# Altium integrated library Linear Technology Power Management PMIC Multifunction.IntLib: 360 symbols (part 2 of 42)
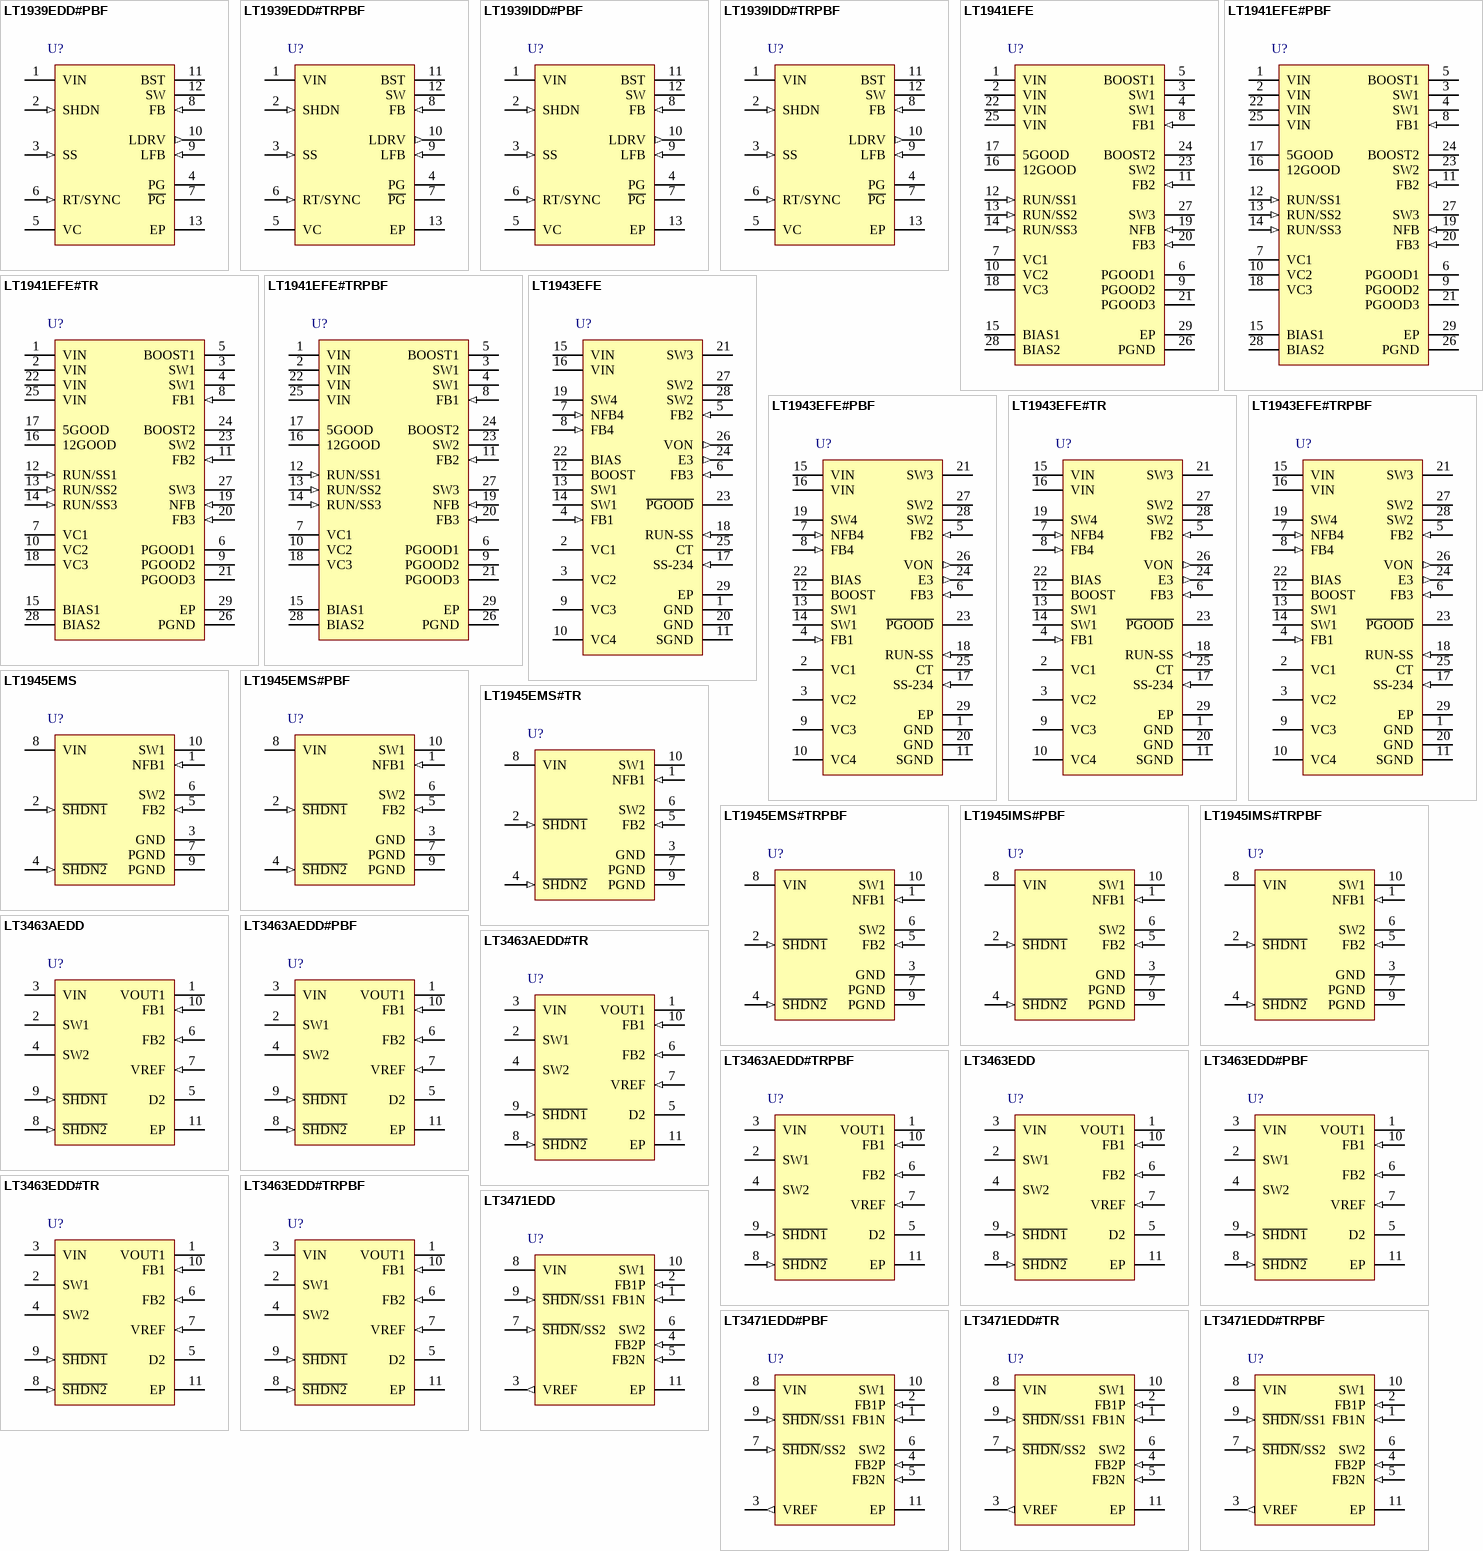
[diagram p19: symbols LT1939EDD#PBF to LT3471EDD#TRPBF]

## LT1943EFE#PBF
designator U?
High Current Quad Output Regulator for TFT LCD Display, 4.5 to 22 V Vin, 28-pin SOP (FE-28-EPV-EB), -40 to 85 degC, Pb-Free; Manufacturer: Linear Technology; PartNumber: LT1943EFE#PBF; Number of Outputs: 4; Vin Max(V): 22; Vin Min(V): 4.5; DatasheetVersion: Rev. A; PackageVersion: Rev. J, 11/2012; PackageReference: FE-28; PackageDescription: 28-Pin Plastic TSSOP, Body 9.7 x 4.4 mm, Pitch 0.65 mm; Supplier 1: Digi-Key; Supplier Part Number 1: LT1943EFE#PBF-ND; Supplier 2: Newark; Supplier Part Number 2: 57M7254; RoHS: TRUE; Mounting Technology: Surface Mount; ComponentLink1Description: Manufacturer URL; ComponentLink1URL: http://www.linear.com/; ComponentLink2Description: Datasheet; ComponentLink2URL: http://cds.linear.com/docs/en/datasheet/1943f.pdf; ComponentLink3Description: Package Specification; ComponentLink3URL: http://cds.linear.com/docs/en/packaging/05081663__J_FE28(EB).pdf
footprint LT-FE-28-EPV-EB_N (SOP, 28-Leads, Body 9.8x4.5mm, Pitch 0.65mm, Thermal Pad 4.75x2.74mm, IPC Medium Density)
footprint LT-FE-28-EPV-EB_L (SOP, 28-Leads, Body 9.8x4.5mm, Pitch 0.65mm, Thermal Pad 4.75x2.74mm, IPC High Density)
footprint LT-FE-28-EPV-EB_M (SOP, 28-Leads, Body 9.8x4.5mm, Pitch 0.65mm, Thermal Pad 4.75x2.74mm, IPC Low Density)
pins: 1 GND (power) "Ground. Tie both GND pins and the exposed pad directly to a local ground plane.", 2 VC1 "Switching Regulator 1 Error Amplifier Compensation. Connect a resistor / capacitor network in series with this pin.", 3 VC2 "Error Amplifier Compensation for Switcher 2. Connect a resistor / capacitor network in series with this pin.", 4 FB1 (in) "Switching Regulator 1 Feedback. Tie the resistor divider tap to this pin and set VLOGIC according to VLOGIC = 1.25 ?(1 + R2/R1). Reference designators refer to Figure 1.", 5 FB2 (in) "Feedback for Switch 2. Tie the resistor divider tap to this pin and set AVDD according to AVDD  = 1.25 ?(1 + R6/R5).", 6 FB3 (in) "Switching Regulator 3 Feedback. Tie the resistor divider tap to this pin and set VON according to VON = 1.25 ?(1 + R9/R8) - 150 mV.", 7 NFB4 (in) "Switching Regulator 4 Negative Feedback. Switcher 4 can be used to generate a positive or negative output.", 8 FB4 (in) "Feedback for Switch 4. When generating a positive voltage from switch 4, tie the resistor divider tap to this pin. When generating a negative voltage, tie a 10 k resistor between FB4 and NFB4 (R4).", 9 VC3 "Switching Regulator 3 Error Amplifier Com- pensation. Connect a resistor / capacitor network in series with this pin.", 10 VC4 "Switching Regulator 4 Error Amplifier Compensation. Connect a resistor / capacitor network in series with this pin.", 11 SGND (power) "Signal Ground. Return ground trace from the FB resistor networks and VC pin compensation components directly to this pin and then tie to ground.", 12 BOOST "The BOOST pin is used to provide a drive voltage, higher than VIN , to the switch 1 drive circuit.", 13 SW1 (power) "The SW1 pins are the emitter of the internal NPN bipolar power transistor for switching regulator 1.", 14 SW1 (power) "The SW1 pins are the emitter of the internal NPN bipolar power transistor for switching regulator 1.", 15 VIN (power) "The VIN pin supply current to the LT1943’s internal regulator and to the internal power transistor for switch 1. This pin must be tied together and locally bypassed.", 16 VIN (power) "The VIN pin supply current to the LT1943’s internal regulator and to the internal power transistor for switch 1. This pin must be tied together and locally bypassed.", 17 SS-234 (in) "This is the soft-start pin for switching regulators 2, 3 and 4. Place a soft-start capacitor here to limit start-up inrush current and output voltage ramp rate.", 18 RUN-SS (in) "This is the soft-start pin for switching regulator 1. Place a soft-start capacitor here to limit start- up inrush current and output voltage ramp rate.", 19 SW4 (power) "This is the collector of the internal NPN bipolar power transistor for switching regulator 4. Mini- mize metal trace area at this pin to keep EMI down.", 20 GND (power) "Ground. Tie both GND pins and the exposed pad directly to a local ground plane.", 21 SW3 (power) "This is the collector of the internal NPN bipolar power transistor for switching regulator 3. Mini- mize metal trace area at this pin to keep EMI down.", 22 BIAS (power) "The BIAS pin is used to improve efficiency when operating at higher input voltages. Connecting this pin to the output of switching regulator 1 forces most of the internal circuitry to draw its operating current from VLOGIC (See Datasheet)", 23 ~{PGOOD} (oc) "Power Good Comparator Output. This is the open collector output of the power good comparator and can be used in conjunction with an external P-Channel MOSFET to provide output disconnect for AV DD as shown in the 5 V Input, (See Datasheet)", 24 E3 (out) "This is switching regulator 3 output and the emitter of the output disconnect PNP. Tie the output capacitor and resistor divider here.", 25 CT "Timing Capacitor Pin. This is the input to the VON timer and programs the time delay from all four feedback pins reaching 1.125 V to VON turning on.", 26 VON (out) "This is the delayed output for switching regulator 3. VON reaches its programmed voltage after the internal CT timer times out. Protection circuitry ensures VON is disabled if any of the four outputs are more than 10% below (See Datasheet)", 27 SW2 (power) "The SW2 pins are the collector of the internal NPN bipolar power transistor for switching regulator 2. These pins must be tied together. Minimize trace area at these pins to keep EMI down.", 28 SW2 (power) "The SW2 pins are the collector of the internal NPN bipolar power transistor for switching regulator 2. These pins must be tied together. Minimize trace area at these pins to keep EMI down.", 29 EP (power) "Ground. The ground metal to the exposed pad should be as wide as possible for better heat dissipation. Multiple vias (to ground plane under the ground backplane) placed close to the exposed pad can further aid in reducing (See Datasheet)"

## LT1943EFE#TR
designator U?
High Current Quad Output Regulator for TFT LCD Display, 4.5 to 22 V Vin, 28-pin SOP (FE-28-EPV-EB), -40 to 85 degC, Tape and Reel; Manufacturer: Linear Technology; PartNumber: LT1943EFE#TR; Number of Outputs: 4; Vin Max(V): 22; Vin Min(V): 4.5; DatasheetVersion: Rev. A; PackageVersion: Rev. J, 11/2012; PackageReference: FE-28; PackageDescription: 28-Pin Plastic TSSOP, Body 9.7 x 4.4 mm, Pitch 0.65 mm; Supplier 1: Digi-Key; Supplier Part Number 1: LT1943EFE#TR-ND; Packing: Tape and Reel; RoHS: FALSE; Mounting Technology: Surface Mount; ComponentLink1Description: Manufacturer URL; ComponentLink1URL: http://www.linear.com/; ComponentLink2Description: Datasheet; ComponentLink2URL: http://cds.linear.com/docs/en/datasheet/1943f.pdf; ComponentLink3Description: Package Specification; ComponentLink3URL: http://cds.linear.com/docs/en/packaging/05081663__J_FE28(EB).pdf
footprint LT-FE-28-EPV-EB_N (SOP, 28-Leads, Body 9.8x4.5mm, Pitch 0.65mm, Thermal Pad 4.75x2.74mm, IPC Medium Density)
footprint LT-FE-28-EPV-EB_L (SOP, 28-Leads, Body 9.8x4.5mm, Pitch 0.65mm, Thermal Pad 4.75x2.74mm, IPC High Density)
footprint LT-FE-28-EPV-EB_M (SOP, 28-Leads, Body 9.8x4.5mm, Pitch 0.65mm, Thermal Pad 4.75x2.74mm, IPC Low Density)
pins: 1 GND (power) "Ground. Tie both GND pins and the exposed pad directly to a local ground plane.", 2 VC1 "Switching Regulator 1 Error Amplifier Compensation. Connect a resistor / capacitor network in series with this pin.", 3 VC2 "Error Amplifier Compensation for Switcher 2. Connect a resistor / capacitor network in series with this pin.", 4 FB1 (in) "Switching Regulator 1 Feedback. Tie the resistor divider tap to this pin and set VLOGIC according to VLOGIC = 1.25 ?(1 + R2/R1). Reference designators refer to Figure 1.", 5 FB2 (in) "Feedback for Switch 2. Tie the resistor divider tap to this pin and set AVDD according to AVDD  = 1.25 ?(1 + R6/R5).", 6 FB3 (in) "Switching Regulator 3 Feedback. Tie the resistor divider tap to this pin and set VON according to VON = 1.25 ?(1 + R9/R8) - 150 mV.", 7 NFB4 (in) "Switching Regulator 4 Negative Feedback. Switcher 4 can be used to generate a positive or negative output.", 8 FB4 (in) "Feedback for Switch 4. When generating a positive voltage from switch 4, tie the resistor divider tap to this pin. When generating a negative voltage, tie a 10 k resistor between FB4 and NFB4 (R4).", 9 VC3 "Switching Regulator 3 Error Amplifier Com- pensation. Connect a resistor / capacitor network in series with this pin.", 10 VC4 "Switching Regulator 4 Error Amplifier Compensation. Connect a resistor / capacitor network in series with this pin.", 11 SGND (power) "Signal Ground. Return ground trace from the FB resistor networks and VC pin compensation components directly to this pin and then tie to ground.", 12 BOOST "The BOOST pin is used to provide a drive voltage, higher than VIN , to the switch 1 drive circuit.", 13 SW1 (power) "The SW1 pins are the emitter of the internal NPN bipolar power transistor for switching regulator 1.", 14 SW1 (power) "The SW1 pins are the emitter of the internal NPN bipolar power transistor for switching regulator 1.", 15 VIN (power) "The VIN pin supply current to the LT1943’s internal regulator and to the internal power transistor for switch 1. This pin must be tied together and locally bypassed.", 16 VIN (power) "The VIN pin supply current to the LT1943’s internal regulator and to the internal power transistor for switch 1. This pin must be tied together and locally bypassed.", 17 SS-234 (in) "This is the soft-start pin for switching regulators 2, 3 and 4. Place a soft-start capacitor here to limit start-up inrush current and output voltage ramp rate.", 18 RUN-SS (in) "This is the soft-start pin for switching regulator 1. Place a soft-start capacitor here to limit start- up inrush current and output voltage ramp rate.", 19 SW4 (power) "This is the collector of the internal NPN bipolar power transistor for switching regulator 4. Mini- mize metal trace area at this pin to keep EMI down.", 20 GND (power) "Ground. Tie both GND pins and the exposed pad directly to a local ground plane.", 21 SW3 (power) "This is the collector of the internal NPN bipolar power transistor for switching regulator 3. Mini- mize metal trace area at this pin to keep EMI down.", 22 BIAS (power) "The BIAS pin is used to improve efficiency when operating at higher input voltages. Connecting this pin to the output of switching regulator 1 forces most of the internal circuitry to draw its operating current from VLOGIC (See Datasheet)", 23 ~{PGOOD} (oc) "Power Good Comparator Output. This is the open collector output of the power good comparator and can be used in conjunction with an external P-Channel MOSFET to provide output disconnect for AV DD as shown in the 5 V Input, (See Datasheet)", 24 E3 (out) "This is switching regulator 3 output and the emitter of the output disconnect PNP. Tie the output capacitor and resistor divider here.", 25 CT "Timing Capacitor Pin. This is the input to the VON timer and programs the time delay from all four feedback pins reaching 1.125 V to VON turning on.", 26 VON (out) "This is the delayed output for switching regulator 3. VON reaches its programmed voltage after the internal CT timer times out. Protection circuitry ensures VON is disabled if any of the four outputs are more than 10% below (See Datasheet)", 27 SW2 (power) "The SW2 pins are the collector of the internal NPN bipolar power transistor for switching regulator 2. These pins must be tied together. Minimize trace area at these pins to keep EMI down.", 28 SW2 (power) "The SW2 pins are the collector of the internal NPN bipolar power transistor for switching regulator 2. These pins must be tied together. Minimize trace area at these pins to keep EMI down.", 29 EP (power) "Ground. The ground metal to the exposed pad should be as wide as possible for better heat dissipation. Multiple vias (to ground plane under the ground backplane) placed close to the exposed pad can further aid in reducing (See Datasheet)"

## LT1943EFE#TRPBF
designator U?
High Current Quad Output Regulator for TFT LCD Display, 4.5 to 22 V Vin, 28-pin SOP (FE-28-EPV-EB), -40 to 85 degC, Pb-Free, Tape and Reel; Manufacturer: Linear Technology; PartNumber: LT1943EFE#TRPBF; Number of Outputs: 4; Vin Max(V): 22; Vin Min(V): 4.5; DatasheetVersion: Rev. A; PackageVersion: Rev. J, 11/2012; PackageReference: FE-28; PackageDescription: 28-Pin Plastic TSSOP, Body 9.7 x 4.4 mm, Pitch 0.65 mm; Supplier 1: Digi-Key; Supplier Part Number 1: LT1943EFE#TRPBF-ND; Packing: Tape and Reel; RoHS: TRUE; Mounting Technology: Surface Mount; ComponentLink1Description: Manufacturer URL; ComponentLink1URL: http://www.linear.com/; ComponentLink2Description: Datasheet; ComponentLink2URL: http://cds.linear.com/docs/en/datasheet/1943f.pdf; ComponentLink3Description: Package Specification; ComponentLink3URL: http://cds.linear.com/docs/en/packaging/05081663__J_FE28(EB).pdf
footprint LT-FE-28-EPV-EB_N (SOP, 28-Leads, Body 9.8x4.5mm, Pitch 0.65mm, Thermal Pad 4.75x2.74mm, IPC Medium Density)
footprint LT-FE-28-EPV-EB_L (SOP, 28-Leads, Body 9.8x4.5mm, Pitch 0.65mm, Thermal Pad 4.75x2.74mm, IPC High Density)
footprint LT-FE-28-EPV-EB_M (SOP, 28-Leads, Body 9.8x4.5mm, Pitch 0.65mm, Thermal Pad 4.75x2.74mm, IPC Low Density)
pins: 1 GND (power) "Ground. Tie both GND pins and the exposed pad directly to a local ground plane.", 2 VC1 "Switching Regulator 1 Error Amplifier Compensation. Connect a resistor / capacitor network in series with this pin.", 3 VC2 "Error Amplifier Compensation for Switcher 2. Connect a resistor / capacitor network in series with this pin.", 4 FB1 (in) "Switching Regulator 1 Feedback. Tie the resistor divider tap to this pin and set VLOGIC according to VLOGIC = 1.25 ?(1 + R2/R1). Reference designators refer to Figure 1.", 5 FB2 (in) "Feedback for Switch 2. Tie the resistor divider tap to this pin and set AVDD according to AVDD  = 1.25 ?(1 + R6/R5).", 6 FB3 (in) "Switching Regulator 3 Feedback. Tie the resistor divider tap to this pin and set VON according to VON = 1.25 ?(1 + R9/R8) - 150 mV.", 7 NFB4 (in) "Switching Regulator 4 Negative Feedback. Switcher 4 can be used to generate a positive or negative output.", 8 FB4 (in) "Feedback for Switch 4. When generating a positive voltage from switch 4, tie the resistor divider tap to this pin. When generating a negative voltage, tie a 10 k resistor between FB4 and NFB4 (R4).", 9 VC3 "Switching Regulator 3 Error Amplifier Com- pensation. Connect a resistor / capacitor network in series with this pin.", 10 VC4 "Switching Regulator 4 Error Amplifier Compensation. Connect a resistor / capacitor network in series with this pin.", 11 SGND (power) "Signal Ground. Return ground trace from the FB resistor networks and VC pin compensation components directly to this pin and then tie to ground.", 12 BOOST "The BOOST pin is used to provide a drive voltage, higher than VIN , to the switch 1 drive circuit.", 13 SW1 (power) "The SW1 pins are the emitter of the internal NPN bipolar power transistor for switching regulator 1.", 14 SW1 (power) "The SW1 pins are the emitter of the internal NPN bipolar power transistor for switching regulator 1.", 15 VIN (power) "The VIN pin supply current to the LT1943’s internal regulator and to the internal power transistor for switch 1. This pin must be tied together and locally bypassed.", 16 VIN (power) "The VIN pin supply current to the LT1943’s internal regulator and to the internal power transistor for switch 1. This pin must be tied together and locally bypassed.", 17 SS-234 (in) "This is the soft-start pin for switching regulators 2, 3 and 4. Place a soft-start capacitor here to limit start-up inrush current and output voltage ramp rate.", 18 RUN-SS (in) "This is the soft-start pin for switching regulator 1. Place a soft-start capacitor here to limit start- up inrush current and output voltage ramp rate.", 19 SW4 (power) "This is the collector of the internal NPN bipolar power transistor for switching regulator 4. Mini- mize metal trace area at this pin to keep EMI down.", 20 GND (power) "Ground. Tie both GND pins and the exposed pad directly to a local ground plane.", 21 SW3 (power) "This is the collector of the internal NPN bipolar power transistor for switching regulator 3. Mini- mize metal trace area at this pin to keep EMI down.", 22 BIAS (power) "The BIAS pin is used to improve efficiency when operating at higher input voltages. Connecting this pin to the output of switching regulator 1 forces most of the internal circuitry to draw its operating current from VLOGIC (See Datasheet)", 23 ~{PGOOD} (oc) "Power Good Comparator Output. This is the open collector output of the power good comparator and can be used in conjunction with an external P-Channel MOSFET to provide output disconnect for AV DD as shown in the 5 V Input, (See Datasheet)", 24 E3 (out) "This is switching regulator 3 output and the emitter of the output disconnect PNP. Tie the output capacitor and resistor divider here.", 25 CT "Timing Capacitor Pin. This is the input to the VON timer and programs the time delay from all four feedback pins reaching 1.125 V to VON turning on.", 26 VON (out) "This is the delayed output for switching regulator 3. VON reaches its programmed voltage after the internal CT timer times out. Protection circuitry ensures VON is disabled if any of the four outputs are more than 10% below (See Datasheet)", 27 SW2 (power) "The SW2 pins are the collector of the internal NPN bipolar power transistor for switching regulator 2. These pins must be tied together. Minimize trace area at these pins to keep EMI down.", 28 SW2 (power) "The SW2 pins are the collector of the internal NPN bipolar power transistor for switching regulator 2. These pins must be tied together. Minimize trace area at these pins to keep EMI down.", 29 EP (power) "Ground. The ground metal to the exposed pad should be as wide as possible for better heat dissipation. Multiple vias (to ground plane under the ground backplane) placed close to the exposed pad can further aid in reducing (See Datasheet)"

## LT1945EMS
designator U?
Dual Micropower DC/DC Converter with Positive and Negative Outputs, 1.2 to 15 V Vin, 10-pin SOP (MS-10), -40 to 85 degC; Manufacturer: Linear Technology; PartNumber: LT1945EMS; Number of Outputs: 2; Vin Max(V): 15; Vin Min(V): 1.2; DatasheetVersion: Rev. A; PackageVersion: Rev. E, 06/2010; PackageReference: MS-10; PackageDescription: 10-Pin Plastic MSOP, Body 3 x 3 mm, Pitch 0.5 mm; Supplier 1: Digi-Key; Supplier Part Number 1: LT1945EMS-ND; Supplier 2: Newark; Supplier Part Number 2: 57M7265; RoHS: FALSE; Mounting Technology: Surface Mount; ComponentLink1Description: Manufacturer URL; ComponentLink1URL: http://www.linear.com/; ComponentLink2Description: Datasheet; ComponentLink2URL: http://cds.linear.com/docs/en/datasheet/1945fa.pdf; ComponentLink3Description: Package Specification; ComponentLink3URL: http://cds.linear.com/docs/en/packaging/05081661_F_MS.pdf
footprint LT-MS-10_N (SOP, 10-Leads, Body 3.1x3.1mm, Pitch 0.5mm, IPC Medium Density)
footprint LT-MS-10_L (SOP, 10-Leads, Body 3.1x3.1mm, Pitch 0.5mm, IPC High Density)
footprint LT-MS-10_M (SOP, 10-Leads, Body 3.1x3.1mm, Pitch 0.5mm, IPC Low Density)
pins: 1 NFB1 (in) "Feedback Pin for Switcher 1. Set the output voltage by selecting values for R1 and R2.", 2 ~{SHDN1} (in) "Shutdown Pin for Switcher 1. Tie this pin to 0.9V or higher to enable device. Tie below 0.25V to turn it off.", 3 GND (power) "Ground. Tie this pin directly to the local ground plane.", 4 ~{SHDN2} (in) "Shutdown Pin for Switcher 2. Tie this pin to 0.9V or higher to enable device. Tie below 0.25V to turn it off.", 5 FB2 (in) "Feedback Pin for Switcher 2. Set the output voltage by selecting values for R1B and R2B.", 6 SW2 (power) "Switch Pin for Switcher 2. This is the collector of the internal NPN power switch. Minimize the metal trace area connected to the pin to minimize EMI.", 7 PGND (power) "Power Ground. Tie these pins directly to the local ground plane. Both pins must be tied.", 8 VIN (power) "Input Supply Pin. Bypass this pin with a capacitor as close to the device as possible.", 9 PGND (power) "Power Ground. Tie these pins directly to the local ground plane. Both pins must be tied.", 10 SW1 (power) "Switch Pin for Switcher 1. This is the collector of the internal NPN power switch. Minimize the metal trace area connected to the pin to minimize EMI."

## LT1945EMS#PBF
designator U?
Dual Micropower DC/DC Converter with Positive and Negative Outputs, 1.2 to 15 V Vin, 10-pin SOP (MS-10), -40 to 85 degC, Pb-Free; Manufacturer: Linear Technology; PartNumber: LT1945EMS#PBF; Number of Outputs: 2; Vin Max(V): 15; Vin Min(V): 1.2; DatasheetVersion: Rev. A; PackageVersion: Rev. E, 06/2010; PackageReference: MS-10; PackageDescription: 10-Pin Plastic MSOP, Body 3 x 3 mm, Pitch 0.5 mm; Supplier 1: Digi-Key; Supplier Part Number 1: LT1945EMS#PBF-ND; Supplier 2: Farnell; Supplier Part Number 2: 1273495; Supplier 3: Newark; Supplier Part Number 3: 57M7266; RoHS: TRUE; Mounting Technology: Surface Mount; ComponentLink1Description: Manufacturer URL; ComponentLink1URL: http://www.linear.com/; ComponentLink2Description: Datasheet; ComponentLink2URL: http://cds.linear.com/docs/en/datasheet/1945fa.pdf; ComponentLink3Description: Package Specification; ComponentLink3URL: http://cds.linear.com/docs/en/packaging/05081661_F_MS.pdf
footprint LT-MS-10_N (SOP, 10-Leads, Body 3.1x3.1mm, Pitch 0.5mm, IPC Medium Density)
footprint LT-MS-10_L (SOP, 10-Leads, Body 3.1x3.1mm, Pitch 0.5mm, IPC High Density)
footprint LT-MS-10_M (SOP, 10-Leads, Body 3.1x3.1mm, Pitch 0.5mm, IPC Low Density)
pins: 1 NFB1 (in) "Feedback Pin for Switcher 1. Set the output voltage by selecting values for R1 and R2.", 2 ~{SHDN1} (in) "Shutdown Pin for Switcher 1. Tie this pin to 0.9V or higher to enable device. Tie below 0.25V to turn it off.", 3 GND (power) "Ground. Tie this pin directly to the local ground plane.", 4 ~{SHDN2} (in) "Shutdown Pin for Switcher 2. Tie this pin to 0.9V or higher to enable device. Tie below 0.25V to turn it off.", 5 FB2 (in) "Feedback Pin for Switcher 2. Set the output voltage by selecting values for R1B and R2B.", 6 SW2 (power) "Switch Pin for Switcher 2. This is the collector of the internal NPN power switch. Minimize the metal trace area connected to the pin to minimize EMI.", 7 PGND (power) "Power Ground. Tie these pins directly to the local ground plane. Both pins must be tied.", 8 VIN (power) "Input Supply Pin. Bypass this pin with a capacitor as close to the device as possible.", 9 PGND (power) "Power Ground. Tie these pins directly to the local ground plane. Both pins must be tied.", 10 SW1 (power) "Switch Pin for Switcher 1. This is the collector of the internal NPN power switch. Minimize the metal trace area connected to the pin to minimize EMI."

## LT1945EMS#TR
designator U?
Dual Micropower DC/DC Converter with Positive and Negative Outputs, 1.2 to 15 V Vin, 10-pin SOP (MS-10), -40 to 85 degC, Tape and Reel; Manufacturer: Linear Technology; PartNumber: LT1945EMS#TR; Number of Outputs: 2; Vin Max(V): 15; Vin Min(V): 1.2; DatasheetVersion: Rev. A; PackageVersion: Rev. E, 06/2010; PackageReference: MS-10; PackageDescription: 10-Pin Plastic MSOP, Body 3 x 3 mm, Pitch 0.5 mm; Supplier 1: Digi-Key; Supplier Part Number 1: LT1945EMSTR-ND; Packing: Tape and Reel; RoHS: FALSE; Mounting Technology: Surface Mount; ComponentLink1Description: Manufacturer URL; ComponentLink1URL: http://www.linear.com/; ComponentLink2Description: Datasheet; ComponentLink2URL: http://cds.linear.com/docs/en/datasheet/1945fa.pdf; ComponentLink3Description: Package Specification; ComponentLink3URL: http://cds.linear.com/docs/en/packaging/05081661_F_MS.pdf
footprint LT-MS-10_N (SOP, 10-Leads, Body 3.1x3.1mm, Pitch 0.5mm, IPC Medium Density)
footprint LT-MS-10_L (SOP, 10-Leads, Body 3.1x3.1mm, Pitch 0.5mm, IPC High Density)
footprint LT-MS-10_M (SOP, 10-Leads, Body 3.1x3.1mm, Pitch 0.5mm, IPC Low Density)
pins: 1 NFB1 (in) "Feedback Pin for Switcher 1. Set the output voltage by selecting values for R1 and R2.", 2 ~{SHDN1} (in) "Shutdown Pin for Switcher 1. Tie this pin to 0.9V or higher to enable device. Tie below 0.25V to turn it off.", 3 GND (power) "Ground. Tie this pin directly to the local ground plane.", 4 ~{SHDN2} (in) "Shutdown Pin for Switcher 2. Tie this pin to 0.9V or higher to enable device. Tie below 0.25V to turn it off.", 5 FB2 (in) "Feedback Pin for Switcher 2. Set the output voltage by selecting values for R1B and R2B.", 6 SW2 (power) "Switch Pin for Switcher 2. This is the collector of the internal NPN power switch. Minimize the metal trace area connected to the pin to minimize EMI.", 7 PGND (power) "Power Ground. Tie these pins directly to the local ground plane. Both pins must be tied.", 8 VIN (power) "Input Supply Pin. Bypass this pin with a capacitor as close to the device as possible.", 9 PGND (power) "Power Ground. Tie these pins directly to the local ground plane. Both pins must be tied.", 10 SW1 (power) "Switch Pin for Switcher 1. This is the collector of the internal NPN power switch. Minimize the metal trace area connected to the pin to minimize EMI."

## LT1945EMS#TRPBF
designator U?
Dual Micropower DC/DC Converter with Positive and Negative Outputs, 1.2 to 15 V Vin, 10-pin SOP (MS-10), -40 to 85 degC, Pb-Free, Tape and Reel; Manufacturer: Linear Technology; PartNumber: LT1945EMS#TRPBF; Number of Outputs: 2; Vin Max(V): 15; Vin Min(V): 1.2; DatasheetVersion: Rev. A; PackageVersion: Rev. E, 06/2010; PackageReference: MS-10; PackageDescription: 10-Pin Plastic MSOP, Body 3 x 3 mm, Pitch 0.5 mm; Supplier 1: Digi-Key; Supplier Part Number 1: LT1945EMS#TRPBF-ND; Supplier 2: Newark; Supplier Part Number 2: 57M7268; Packing: Tape and Reel; RoHS: TRUE; Mounting Technology: Surface Mount; ComponentLink1Description: Manufacturer URL; ComponentLink1URL: http://www.linear.com/; ComponentLink2Description: Datasheet; ComponentLink2URL: http://cds.linear.com/docs/en/datasheet/1945fa.pdf; ComponentLink3Description: Package Specification; ComponentLink3URL: http://cds.linear.com/docs/en/packaging/05081661_F_MS.pdf
footprint LT-MS-10_N (SOP, 10-Leads, Body 3.1x3.1mm, Pitch 0.5mm, IPC Medium Density)
footprint LT-MS-10_L (SOP, 10-Leads, Body 3.1x3.1mm, Pitch 0.5mm, IPC High Density)
footprint LT-MS-10_M (SOP, 10-Leads, Body 3.1x3.1mm, Pitch 0.5mm, IPC Low Density)
pins: 1 NFB1 (in) "Feedback Pin for Switcher 1. Set the output voltage by selecting values for R1 and R2.", 2 ~{SHDN1} (in) "Shutdown Pin for Switcher 1. Tie this pin to 0.9V or higher to enable device. Tie below 0.25V to turn it off.", 3 GND (power) "Ground. Tie this pin directly to the local ground plane.", 4 ~{SHDN2} (in) "Shutdown Pin for Switcher 2. Tie this pin to 0.9V or higher to enable device. Tie below 0.25V to turn it off.", 5 FB2 (in) "Feedback Pin for Switcher 2. Set the output voltage by selecting values for R1B and R2B.", 6 SW2 (power) "Switch Pin for Switcher 2. This is the collector of the internal NPN power switch. Minimize the metal trace area connected to the pin to minimize EMI.", 7 PGND (power) "Power Ground. Tie these pins directly to the local ground plane. Both pins must be tied.", 8 VIN (power) "Input Supply Pin. Bypass this pin with a capacitor as close to the device as possible.", 9 PGND (power) "Power Ground. Tie these pins directly to the local ground plane. Both pins must be tied.", 10 SW1 (power) "Switch Pin for Switcher 1. This is the collector of the internal NPN power switch. Minimize the metal trace area connected to the pin to minimize EMI."

## LT1945IMS#PBF
designator U?
Dual Micropower DC/DC Converter with Positive and Negative Outputs, 1.2 to 15 V Vin, 10-pin SOP (MS-10), -40 to 125 degC, Pb-Free; Manufacturer: Linear Technology; PartNumber: LT1945IMS#PBF; Number of Outputs: 2; Vin Max(V): 15; Vin Min(V): 1.2; DatasheetVersion: Rev. A; PackageVersion: Rev. E, 06/2010; PackageReference: MS-10; PackageDescription: 10-Pin Plastic MSOP, Body 3 x 3 mm, Pitch 0.5 mm; Supplier 1: Digi-Key; Supplier Part Number 1: LT1945IMS#PBF-ND; Supplier 2: Farnell; Supplier Part Number 2: 2254837; Supplier 3: Newark; Supplier Part Number 3: 46P5720; RoHS: TRUE; Mounting Technology: Surface Mount; ComponentLink1Description: Manufacturer URL; ComponentLink1URL: http://www.linear.com/; ComponentLink2Description: Datasheet; ComponentLink2URL: http://cds.linear.com/docs/en/datasheet/1945fa.pdf; ComponentLink3Description: Package Specification; ComponentLink3URL: http://cds.linear.com/docs/en/packaging/05081661_F_MS.pdf
footprint LT-MS-10_N (SOP, 10-Leads, Body 3.1x3.1mm, Pitch 0.5mm, IPC Medium Density)
footprint LT-MS-10_L (SOP, 10-Leads, Body 3.1x3.1mm, Pitch 0.5mm, IPC High Density)
footprint LT-MS-10_M (SOP, 10-Leads, Body 3.1x3.1mm, Pitch 0.5mm, IPC Low Density)
pins: 1 NFB1 (in) "Feedback Pin for Switcher 1. Set the output voltage by selecting values for R1 and R2.", 2 ~{SHDN1} (in) "Shutdown Pin for Switcher 1. Tie this pin to 0.9V or higher to enable device. Tie below 0.25V to turn it off.", 3 GND (power) "Ground. Tie this pin directly to the local ground plane.", 4 ~{SHDN2} (in) "Shutdown Pin for Switcher 2. Tie this pin to 0.9V or higher to enable device. Tie below 0.25V to turn it off.", 5 FB2 (in) "Feedback Pin for Switcher 2. Set the output voltage by selecting values for R1B and R2B.", 6 SW2 (power) "Switch Pin for Switcher 2. This is the collector of the internal NPN power switch. Minimize the metal trace area connected to the pin to minimize EMI.", 7 PGND (power) "Power Ground. Tie these pins directly to the local ground plane. Both pins must be tied.", 8 VIN (power) "Input Supply Pin. Bypass this pin with a capacitor as close to the device as possible.", 9 PGND (power) "Power Ground. Tie these pins directly to the local ground plane. Both pins must be tied.", 10 SW1 (power) "Switch Pin for Switcher 1. This is the collector of the internal NPN power switch. Minimize the metal trace area connected to the pin to minimize EMI."

## LT1945IMS#TRPBF
designator U?
Dual Micropower DC/DC Converter with Positive and Negative Outputs, 1.2 to 15 V Vin, 10-pin SOP (MS-10), -40 to 125 degC, Pb-Free, Tape and Reel; Manufacturer: Linear Technology; PartNumber: LT1945IMS#TRPBF; Number of Outputs: 2; Vin Max(V): 15; Vin Min(V): 1.2; DatasheetVersion: Rev. A; PackageVersion: Rev. E, 06/2010; PackageReference: MS-10; PackageDescription: 10-Pin Plastic MSOP, Body 3 x 3 mm, Pitch 0.5 mm; Supplier 1: Digi-Key; Supplier Part Number 1: LT1945IMS#TRPBF-ND; Packing: Tape and Reel; RoHS: TRUE; Mounting Technology: Surface Mount; ComponentLink1Description: Manufacturer URL; ComponentLink1URL: http://www.linear.com/; ComponentLink2Description: Datasheet; ComponentLink2URL: http://cds.linear.com/docs/en/datasheet/1945fa.pdf; ComponentLink3Description: Package Specification; ComponentLink3URL: http://cds.linear.com/docs/en/packaging/05081661_F_MS.pdf
footprint LT-MS-10_N (SOP, 10-Leads, Body 3.1x3.1mm, Pitch 0.5mm, IPC Medium Density)
footprint LT-MS-10_L (SOP, 10-Leads, Body 3.1x3.1mm, Pitch 0.5mm, IPC High Density)
footprint LT-MS-10_M (SOP, 10-Leads, Body 3.1x3.1mm, Pitch 0.5mm, IPC Low Density)
pins: 1 NFB1 (in) "Feedback Pin for Switcher 1. Set the output voltage by selecting values for R1 and R2.", 2 ~{SHDN1} (in) "Shutdown Pin for Switcher 1. Tie this pin to 0.9V or higher to enable device. Tie below 0.25V to turn it off.", 3 GND (power) "Ground. Tie this pin directly to the local ground plane.", 4 ~{SHDN2} (in) "Shutdown Pin for Switcher 2. Tie this pin to 0.9V or higher to enable device. Tie below 0.25V to turn it off.", 5 FB2 (in) "Feedback Pin for Switcher 2. Set the output voltage by selecting values for R1B and R2B.", 6 SW2 (power) "Switch Pin for Switcher 2. This is the collector of the internal NPN power switch. Minimize the metal trace area connected to the pin to minimize EMI.", 7 PGND (power) "Power Ground. Tie these pins directly to the local ground plane. Both pins must be tied.", 8 VIN (power) "Input Supply Pin. Bypass this pin with a capacitor as close to the device as possible.", 9 PGND (power) "Power Ground. Tie these pins directly to the local ground plane. Both pins must be tied.", 10 SW1 (power) "Switch Pin for Switcher 1. This is the collector of the internal NPN power switch. Minimize the metal trace area connected to the pin to minimize EMI."

## LT3463AEDD
designator U?
Dual Micropower DC/DC Converters with Schottky Diodes, 2.4 to 15 V Vin, 10-pin SON (DD-10), -40 to 85 degC; Manufacturer: Linear Technology; PartNumber: LT3463AEDD; Number of Outputs: 2; Vin Max(V): 15; Vin Min(V): 2.4; PackageVersion: Rev. C, 06/2010; PackageReference: DD-10; PackageDescription: 10-Pin Plastic DFN, Body 3 x 3 mm, Pitch 0.5 mm; Supplier 1: Digi-Key; Supplier Part Number 1: LT3463AEDD-ND; RoHS: FALSE; Mounting Technology: Surface Mount; Code_JEDEC: MO-229; ComponentLink1Description: Manufacturer URL; ComponentLink1URL: http://www.linear.com/; ComponentLink2Description: Datasheet; ComponentLink2URL: http://cds.linear.com/docs/en/datasheet/3463f.pdf; ComponentLink3Description: Package Specification; ComponentLink3URL: http://cds.linear.com/docs/en/packaging/DFN_10_05-08-1699.pdf
footprint LT-DD-10_V (SON, 10-Leads, Body 3x3mm, Pitch 0.5mm, Thermal Pad 2.38x1.65mm)
pins: 1 VOUT1 (power) "Output Voltage Switcher 1. This is the cathode of an internal Schottky diode whose anode is connected to the SW1 pin.", 2 SW1 "Switch Pin for Switcher 1. This is the collector of the internal NPN switch. Minimize the metal trace area connected to this pin to minimize EMI.", 3 VIN (power) "Input Supply Pin. Bypass this pin with a capacitor as close to the device as possible.", 4 SW2 "Switch Pin for Switcher 2. This is the collector of the internal NPN switch. Minimize the metal trace area connected to this pin to minimize EMI.", 5 D2 "Diode for Switcher 2. This is the anode of an internal Schottky diode whose cathode connected to the GND pin.", 6 FB2 (in) "Feedback Pin for Switcher 2. Set the output voltage by selecting values for R3 and R4.", 7 VREF (in) "Voltage Reference Pin (1.25V). This pin is used along with FB2 to set the negative output voltage for Switcher 2.", 8 ~{SHDN2} (in) "Shutdown Pin for Switcher 2. Pull this pin above 1.5V to enable Switcher 2. Pull below 0.3V to turn it off. Do not leave this pin floating.", 9 ~{SHDN1} (in) "Shutdown Pin for Switcher 1. Pull this pin above 1.5V to enable Switcher 1. Pull below 0.3V to turn it off. Do not leave this pin floating.", 10 FB1 (in) "Feedback Pin for Switcher 1. Set the output voltage by selecting values for R1 and R2.", 11 EP (power) "Exposed Pad. Solder this exposed pad directly to the local ground plane. This pad must be electrically connected for proper operation."

## LT3463AEDD#PBF
designator U?
Dual Micropower DC/DC Converters with Schottky Diodes, 2.4 to 15 V Vin, 10-pin SON (DD-10), -40 to 85 degC, Pb-Free; Manufacturer: Linear Technology; PartNumber: LT3463AEDD#PBF; Number of Outputs: 2; Vin Max(V): 15; Vin Min(V): 2.4; PackageVersion: Rev. C, 06/2010; PackageReference: DD-10; PackageDescription: 10-Pin Plastic DFN, Body 3 x 3 mm, Pitch 0.5 mm; Supplier 1: Digi-Key; Supplier Part Number 1: LT3463AEDD#PBF-ND; Supplier 2: Farnell; Supplier Part Number 2: 1663555; Supplier 3: Newark; Supplier Part Number 3: 57M8184; RoHS: TRUE; Mounting Technology: Surface Mount; Code_JEDEC: MO-229; ComponentLink1Description: Manufacturer URL; ComponentLink1URL: http://www.linear.com/; ComponentLink2Description: Datasheet; ComponentLink2URL: http://cds.linear.com/docs/en/datasheet/3463f.pdf; ComponentLink3Description: Package Specification; ComponentLink3URL: http://cds.linear.com/docs/en/packaging/DFN_10_05-08-1699.pdf
footprint LT-DD-10_V (SON, 10-Leads, Body 3x3mm, Pitch 0.5mm, Thermal Pad 2.38x1.65mm)
pins: 1 VOUT1 (power) "Output Voltage Switcher 1. This is the cathode of an internal Schottky diode whose anode is connected to the SW1 pin.", 2 SW1 "Switch Pin for Switcher 1. This is the collector of the internal NPN switch. Minimize the metal trace area connected to this pin to minimize EMI.", 3 VIN (power) "Input Supply Pin. Bypass this pin with a capacitor as close to the device as possible.", 4 SW2 "Switch Pin for Switcher 2. This is the collector of the internal NPN switch. Minimize the metal trace area connected to this pin to minimize EMI.", 5 D2 "Diode for Switcher 2. This is the anode of an internal Schottky diode whose cathode connected to the GND pin.", 6 FB2 (in) "Feedback Pin for Switcher 2. Set the output voltage by selecting values for R3 and R4.", 7 VREF (in) "Voltage Reference Pin (1.25V). This pin is used along with FB2 to set the negative output voltage for Switcher 2.", 8 ~{SHDN2} (in) "Shutdown Pin for Switcher 2. Pull this pin above 1.5V to enable Switcher 2. Pull below 0.3V to turn it off. Do not leave this pin floating.", 9 ~{SHDN1} (in) "Shutdown Pin for Switcher 1. Pull this pin above 1.5V to enable Switcher 1. Pull below 0.3V to turn it off. Do not leave this pin floating.", 10 FB1 (in) "Feedback Pin for Switcher 1. Set the output voltage by selecting values for R1 and R2.", 11 EP (power) "Exposed Pad. Solder this exposed pad directly to the local ground plane. This pad must be electrically connected for proper operation."

## LT3463AEDD#TR
designator U?
Dual Micropower DC/DC Converters with Schottky Diodes, 2.4 to 15 V Vin, 10-pin SON (DD-10), -40 to 85 degC, Tape and Reel; Manufacturer: Linear Technology; PartNumber: LT3463AEDD#TR; Number of Outputs: 2; Vin Max(V): 15; Vin Min(V): 2.4; PackageVersion: Rev. C, 06/2010; PackageReference: DD-10; PackageDescription: 10-Pin Plastic DFN, Body 3 x 3 mm, Pitch 0.5 mm; Supplier 1: Digi-Key; Supplier Part Number 1: LT3463AEDD#TR-ND; Packing: Tape and Reel; RoHS: FALSE; Mounting Technology: Surface Mount; Code_JEDEC: MO-229; ComponentLink1Description: Manufacturer URL; ComponentLink1URL: http://www.linear.com/; ComponentLink2Description: Datasheet; ComponentLink2URL: http://cds.linear.com/docs/en/datasheet/3463f.pdf; ComponentLink3Description: Package Specification; ComponentLink3URL: http://cds.linear.com/docs/en/packaging/DFN_10_05-08-1699.pdf
footprint LT-DD-10_V (SON, 10-Leads, Body 3x3mm, Pitch 0.5mm, Thermal Pad 2.38x1.65mm)
pins: 1 VOUT1 (power) "Output Voltage Switcher 1. This is the cathode of an internal Schottky diode whose anode is connected to the SW1 pin.", 2 SW1 "Switch Pin for Switcher 1. This is the collector of the internal NPN switch. Minimize the metal trace area connected to this pin to minimize EMI.", 3 VIN (power) "Input Supply Pin. Bypass this pin with a capacitor as close to the device as possible.", 4 SW2 "Switch Pin for Switcher 2. This is the collector of the internal NPN switch. Minimize the metal trace area connected to this pin to minimize EMI.", 5 D2 "Diode for Switcher 2. This is the anode of an internal Schottky diode whose cathode connected to the GND pin.", 6 FB2 (in) "Feedback Pin for Switcher 2. Set the output voltage by selecting values for R3 and R4.", 7 VREF (in) "Voltage Reference Pin (1.25V). This pin is used along with FB2 to set the negative output voltage for Switcher 2.", 8 ~{SHDN2} (in) "Shutdown Pin for Switcher 2. Pull this pin above 1.5V to enable Switcher 2. Pull below 0.3V to turn it off. Do not leave this pin floating.", 9 ~{SHDN1} (in) "Shutdown Pin for Switcher 1. Pull this pin above 1.5V to enable Switcher 1. Pull below 0.3V to turn it off. Do not leave this pin floating.", 10 FB1 (in) "Feedback Pin for Switcher 1. Set the output voltage by selecting values for R1 and R2.", 11 EP (power) "Exposed Pad. Solder this exposed pad directly to the local ground plane. This pad must be electrically connected for proper operation."

## LT3463AEDD#TRPBF
designator U?
Dual Micropower DC/DC Converters with Schottky Diodes, 2.4 to 15 V Vin, 10-pin SON (DD-10), -40 to 85 degC, Pb-Free, Tape and Reel; Manufacturer: Linear Technology; PartNumber: LT3463AEDD#TRPBF; Number of Outputs: 2; Vin Max(V): 15; Vin Min(V): 2.4; PackageVersion: Rev. C, 06/2010; PackageReference: DD-10; PackageDescription: 10-Pin Plastic DFN, Body 3 x 3 mm, Pitch 0.5 mm; Supplier 1: Digi-Key; Supplier Part Number 1: LT3463AEDD#TRPBF-ND; Supplier 2: Newark; Supplier Part Number 2: 57M8186; Packing: Tape and Reel; RoHS: TRUE; Mounting Technology: Surface Mount; Code_JEDEC: MO-229; ComponentLink1Description: Manufacturer URL; ComponentLink1URL: http://www.linear.com/; ComponentLink2Description: Datasheet; ComponentLink2URL: http://cds.linear.com/docs/en/datasheet/3463f.pdf; ComponentLink3Description: Package Specification; ComponentLink3URL: http://cds.linear.com/docs/en/packaging/DFN_10_05-08-1699.pdf
footprint LT-DD-10_V (SON, 10-Leads, Body 3x3mm, Pitch 0.5mm, Thermal Pad 2.38x1.65mm)
pins: 1 VOUT1 (power) "Output Voltage Switcher 1. This is the cathode of an internal Schottky diode whose anode is connected to the SW1 pin.", 2 SW1 "Switch Pin for Switcher 1. This is the collector of the internal NPN switch. Minimize the metal trace area connected to this pin to minimize EMI.", 3 VIN (power) "Input Supply Pin. Bypass this pin with a capacitor as close to the device as possible.", 4 SW2 "Switch Pin for Switcher 2. This is the collector of the internal NPN switch. Minimize the metal trace area connected to this pin to minimize EMI.", 5 D2 "Diode for Switcher 2. This is the anode of an internal Schottky diode whose cathode connected to the GND pin.", 6 FB2 (in) "Feedback Pin for Switcher 2. Set the output voltage by selecting values for R3 and R4.", 7 VREF (in) "Voltage Reference Pin (1.25V). This pin is used along with FB2 to set the negative output voltage for Switcher 2.", 8 ~{SHDN2} (in) "Shutdown Pin for Switcher 2. Pull this pin above 1.5V to enable Switcher 2. Pull below 0.3V to turn it off. Do not leave this pin floating.", 9 ~{SHDN1} (in) "Shutdown Pin for Switcher 1. Pull this pin above 1.5V to enable Switcher 1. Pull below 0.3V to turn it off. Do not leave this pin floating.", 10 FB1 (in) "Feedback Pin for Switcher 1. Set the output voltage by selecting values for R1 and R2.", 11 EP (power) "Exposed Pad. Solder this exposed pad directly to the local ground plane. This pad must be electrically connected for proper operation."

## LT3463EDD
designator U?
Dual Micropower DC/DC Converters with Schottky Diodes, 2.4 to 15 V Vin, 10-pin SON (DD-10), -40 to 85 degC; Manufacturer: Linear Technology; PartNumber: LT3463EDD; Number of Outputs: 2; Vin Max(V): 15; Vin Min(V): 2.4; PackageVersion: Rev. C, 06/2010; PackageReference: DD-10; PackageDescription: 10-Pin Plastic DFN, Body 3 x 3 mm, Pitch 0.5 mm; Supplier 1: Digi-Key; Supplier Part Number 1: LT3463EDD-ND; Supplier 2: Newark; Supplier Part Number 2: 57M8187; RoHS: FALSE; Mounting Technology: Surface Mount; Code_JEDEC: MO-229; ComponentLink1Description: Manufacturer URL; ComponentLink1URL: http://www.linear.com/; ComponentLink2Description: Datasheet; ComponentLink2URL: http://cds.linear.com/docs/en/datasheet/3463f.pdf; ComponentLink3Description: Package Specification; ComponentLink3URL: http://cds.linear.com/docs/en/packaging/DFN_10_05-08-1699.pdf
footprint LT-DD-10_V (SON, 10-Leads, Body 3x3mm, Pitch 0.5mm, Thermal Pad 2.38x1.65mm)
pins: 1 VOUT1 (power) "Output Voltage Switcher 1. This is the cathode of an internal Schottky diode whose anode is connected to the SW1 pin.", 2 SW1 "Switch Pin for Switcher 1. This is the collector of the internal NPN switch. Minimize the metal trace area connected to this pin to minimize EMI.", 3 VIN (power) "Input Supply Pin. Bypass this pin with a capacitor as close to the device as possible.", 4 SW2 (power) "Switch Pin for Switcher 2. This is the collector of the internal NPN switch. Minimize the metal trace area connected to this pin to minimize EMI.", 5 D2 "Diode for Switcher 2. This is the anode of an internal Schottky diode whose cathode connected to the GND pin.", 6 FB2 (in) "Feedback Pin for Switcher 2. Set the output voltage by selecting values for R3 and R4.", 7 VREF (in) "Voltage Reference Pin (1.25V). This pin is used along with FB2 to set the negative output voltage for Switcher 2.", 8 ~{SHDN2} (in) "Shutdown Pin for Switcher 2. Pull this pin above 1.5V to enable Switcher 2. Pull below 0.3V to turn it off. Do not leave this pin floating.", 9 ~{SHDN1} (in) "Shutdown Pin for Switcher 1. Pull this pin above 1.5V to enable Switcher 1. Pull below 0.3V to turn it off. Do not leave this pin floating.", 10 FB1 (in) "Feedback Pin for Switcher 1. Set the output voltage by selecting values for R1 and R2.", 11 EP (power) "Exposed Pad. Solder this exposed pad directly to the local ground plane. This pad must be electrically connected for proper operation."

## LT3463EDD#PBF
designator U?
Dual Micropower DC/DC Converters with Schottky Diodes, 2.4 to 15 V Vin, 10-pin SON (DD-10), -40 to 85 degC, Pb-Free; Manufacturer: Linear Technology; PartNumber: LT3463EDD#PBF; Number of Outputs: 2; Vin Max(V): 15; Vin Min(V): 2.4; PackageVersion: Rev. C, 06/2010; PackageReference: DD-10; PackageDescription: 10-Pin Plastic DFN, Body 3 x 3 mm, Pitch 0.5 mm; Supplier 1: Digi-Key; Supplier Part Number 1: LT3463EDD#PBF-ND; Supplier 2: Farnell; Supplier Part Number 2: 1663556; Supplier 3: Newark; Supplier Part Number 3: 57M8188; RoHS: TRUE; Mounting Technology: Surface Mount; Code_JEDEC: MO-229; ComponentLink1Description: Manufacturer URL; ComponentLink1URL: http://www.linear.com/; ComponentLink2Description: Datasheet; ComponentLink2URL: http://cds.linear.com/docs/en/datasheet/3463f.pdf; ComponentLink3Description: Package Specification; ComponentLink3URL: http://cds.linear.com/docs/en/packaging/DFN_10_05-08-1699.pdf
footprint LT-DD-10_V (SON, 10-Leads, Body 3x3mm, Pitch 0.5mm, Thermal Pad 2.38x1.65mm)
pins: 1 VOUT1 (power) "Output Voltage Switcher 1. This is the cathode of an internal Schottky diode whose anode is connected to the SW1 pin.", 2 SW1 "Switch Pin for Switcher 1. This is the collector of the internal NPN switch. Minimize the metal trace area connected to this pin to minimize EMI.", 3 VIN (power) "Input Supply Pin. Bypass this pin with a capacitor as close to the device as possible.", 4 SW2 (power) "Switch Pin for Switcher 2. This is the collector of the internal NPN switch. Minimize the metal trace area connected to this pin to minimize EMI.", 5 D2 "Diode for Switcher 2. This is the anode of an internal Schottky diode whose cathode connected to the GND pin.", 6 FB2 (in) "Feedback Pin for Switcher 2. Set the output voltage by selecting values for R3 and R4.", 7 VREF (in) "Voltage Reference Pin (1.25V). This pin is used along with FB2 to set the negative output voltage for Switcher 2.", 8 ~{SHDN2} (in) "Shutdown Pin for Switcher 2. Pull this pin above 1.5V to enable Switcher 2. Pull below 0.3V to turn it off. Do not leave this pin floating.", 9 ~{SHDN1} (in) "Shutdown Pin for Switcher 1. Pull this pin above 1.5V to enable Switcher 1. Pull below 0.3V to turn it off. Do not leave this pin floating.", 10 FB1 (in) "Feedback Pin for Switcher 1. Set the output voltage by selecting values for R1 and R2.", 11 EP (power) "Exposed Pad. Solder this exposed pad directly to the local ground plane. This pad must be electrically connected for proper operation."

## LT3463EDD#TR
designator U?
Dual Micropower DC/DC Converters with Schottky Diodes, 2.4 to 15 V Vin, 10-pin SON (DD-10), -40 to 85 degC, Tape and Reel; Manufacturer: Linear Technology; PartNumber: LT3463EDD#TR; Number of Outputs: 2; Vin Max(V): 15; Vin Min(V): 2.4; PackageVersion: Rev. C, 06/2010; PackageReference: DD-10; PackageDescription: 10-Pin Plastic DFN, Body 3 x 3 mm, Pitch 0.5 mm; Supplier 1: Digi-Key; Supplier Part Number 1: LT3463EDD#TR-ND; Packing: Tape and Reel; RoHS: FALSE; Mounting Technology: Surface Mount; Code_JEDEC: MO-229; ComponentLink1Description: Manufacturer URL; ComponentLink1URL: http://www.linear.com/; ComponentLink2Description: Datasheet; ComponentLink2URL: http://cds.linear.com/docs/en/datasheet/3463f.pdf; ComponentLink3Description: Package Specification; ComponentLink3URL: http://cds.linear.com/docs/en/packaging/DFN_10_05-08-1699.pdf
footprint LT-DD-10_V (SON, 10-Leads, Body 3x3mm, Pitch 0.5mm, Thermal Pad 2.38x1.65mm)
pins: 1 VOUT1 (power) "Output Voltage Switcher 1. This is the cathode of an internal Schottky diode whose anode is connected to the SW1 pin.", 2 SW1 "Switch Pin for Switcher 1. This is the collector of the internal NPN switch. Minimize the metal trace area connected to this pin to minimize EMI.", 3 VIN (power) "Input Supply Pin. Bypass this pin with a capacitor as close to the device as possible.", 4 SW2 (power) "Switch Pin for Switcher 2. This is the collector of the internal NPN switch. Minimize the metal trace area connected to this pin to minimize EMI.", 5 D2 "Diode for Switcher 2. This is the anode of an internal Schottky diode whose cathode connected to the GND pin.", 6 FB2 (in) "Feedback Pin for Switcher 2. Set the output voltage by selecting values for R3 and R4.", 7 VREF (in) "Voltage Reference Pin (1.25V). This pin is used along with FB2 to set the negative output voltage for Switcher 2.", 8 ~{SHDN2} (in) "Shutdown Pin for Switcher 2. Pull this pin above 1.5V to enable Switcher 2. Pull below 0.3V to turn it off. Do not leave this pin floating.", 9 ~{SHDN1} (in) "Shutdown Pin for Switcher 1. Pull this pin above 1.5V to enable Switcher 1. Pull below 0.3V to turn it off. Do not leave this pin floating.", 10 FB1 (in) "Feedback Pin for Switcher 1. Set the output voltage by selecting values for R1 and R2.", 11 EP (power) "Exposed Pad. Solder this exposed pad directly to the local ground plane. This pad must be electrically connected for proper operation."